# EAGLE library part RN-171 (library Oles komponentbibliotek)
Roving Networks WiFly RN-171 WLAN module
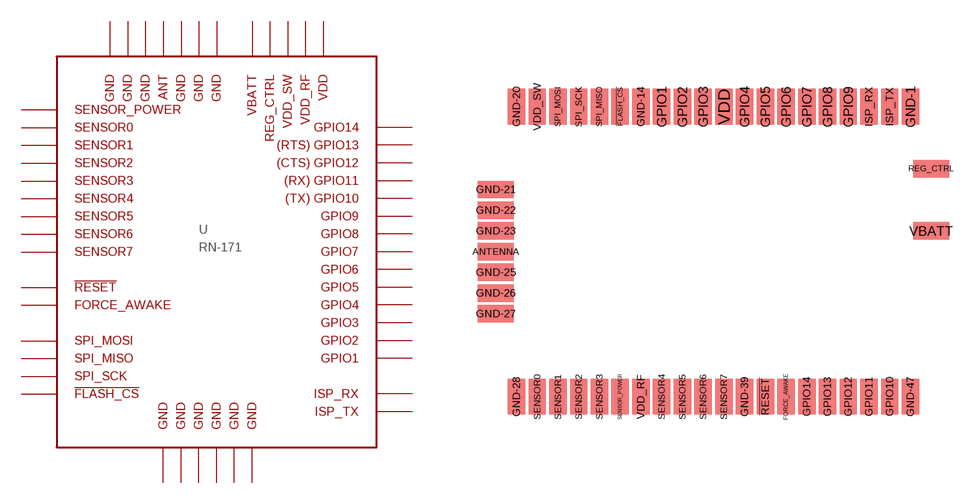
[diagram p12: symbol with the pads of RN-171; footprint RN-171]

Designator prefix -

## RN-171  [RN-171]
!FLASH_CS  !FLASH_CS  in
!RESET  !RESET  in
ANTENNA  ANTENNA
FORCE_AWAKE  FORCE_AWAKE  in
GND-1  GND-1  pwr
GND-14  GND-14  pwr
GND-20  GND-20  pwr
GND-21  GND-21  pwr
GND-22  GND-22  pwr
GND-23  GND-23  pwr
GND-25  GND-25  pwr
GND-26  GND-26  pwr
GND-27  GND-27  pwr
GND-28  GND-28  pwr
GND-39  GND-39  pwr
GND-47  GND-47  pwr
GPIO1  GPIO_1
GPIO2  GPIO_2
GPIO3  GPIO_3
GPIO4  GPIO_4
GPIO5  GPIO_5
GPIO6  GPIO_6
GPIO7  GPIO_7
GPIO8  GPIO_8
GPIO9  GPIO_9
GPIO10  GPIO_10
GPIO11  GPIO_11
GPIO12  GPIO_12
GPIO13  GPIO_13
GPIO14  GPIO_14
ISP_RX  ISP_RX  in
ISP_TX  ISP_TX  out
REG_CTRL  3V3_REG_CTRL  pwr
SENSOR0  SENSOR_0  in
SENSOR1  SENSOR_1  in
SENSOR2  SENSOR_2  in
SENSOR3  SENSOR_3  in
SENSOR4  SENSOR_4  in
SENSOR5  SENSOR_5  in
SENSOR6  SENSOR_6  in
SENSOR7  SENSOR_7  in
SENSOR_POWER  SENSOR_POWER  in
SPI_MISO  SPI_MISO  in
SPI_MOSI  SPI_MOSI  out
SPI_SCK  SPI_SCK  in
VBATT  VBATT  pwr
VDD  VDD_3V3  pwr
VDD_RF  VDD_3V3_RF  pwr
VDD_SW  VDD_3V3_SW  pwr

## Footprint RN-171 (pad centres in mm)
Roving Networks RN-171 surface-mounted on the bottom layer
smd 1.067 x 2.184: !FLASH_CS -6.35,8.89; !RESET 2.54,-8.89; FORCE_AWAKE 3.81,-8.89; GND-1 11.43,8.89; GND-14 -5.08,8.89; GND-20 -12.7,8.89; GND-28 -12.7,-8.89; GND-39 1.27,-8.89; GND-47 11.43,-8.89; GPIO1 -3.81,8.89; GPIO2 -2.54,8.89; GPIO3 -1.27,8.89; GPIO4 1.27,8.89; GPIO5 2.54,8.89; GPIO6 3.81,8.89; GPIO7 5.08,8.89; GPIO8 6.35,8.89; GPIO9 7.62,8.89; GPIO10 10.16,-8.89; GPIO11 8.89,-8.89; GPIO12 7.62,-8.89; GPIO13 6.35,-8.89; GPIO14 5.08,-8.89; ISP_RX 8.89,8.89; ISP_TX 10.16,8.89; SENSOR0 -11.43,-8.89; SENSOR1 -10.16,-8.89; SENSOR2 -8.89,-8.89; SENSOR3 -7.62,-8.89; SENSOR4 -3.81,-8.89; SENSOR5 -2.54,-8.89; SENSOR6 -1.27,-8.89; SENSOR7 0,-8.89; SENSOR_POWER -6.35,-8.89; SPI_MISO -7.62,8.89; SPI_MOSI -10.16,8.89; SPI_SCK -8.89,8.89; VDD 0,8.89; VDD_RF -5.08,-8.89; VDD_SW -11.43,8.89
smd 2.184 x 1.067: ANTENNA -13.97,0; GND-21 -13.97,3.81; GND-22 -13.97,2.54; GND-23 -13.97,1.27; GND-25 -13.97,-1.27; GND-26 -13.97,-2.54; GND-27 -13.97,-3.81; REG_CTRL 12.7,5.08; VBATT 12.7,1.27